# EAGLE library part 691701510008B (library Eagle_WR-TBL Pluggable Connector (rev21a))
WR-TBL Serie 7015B - 5.08 mm Close Vertical PCB Header THR Type KIND PROPERTIES Pitch 5.08 mm MATERIAL PROPERTIES Insulator Material LCP Insulator Flammability Rating UL94 V-0 Contact Material Brass Contact Plating Tin GENERAL INFORMATION Operating Temperature -40 up to +105 °C Compliance RoHS ELECTRICAL PROPERTIES IR cULus 10 A Working Voltage [cULus] 300 V (AC) Withstanding Voltage [cULus] 4000 V (AC) Contact Resistance [cULus] 20 mΩ CERTIFICATION cULus Approval E315414 <https://www.we-online.com/catalog/media/o33333v209%20Family_WR-TBL_66917015100xxB.jpg> Details see: https://www.we-online.com/catalog/en/TBL_5_08_THR_7015B_CLOSE_VERTICAL_PCB_HEADER_6917015100XXB/ Updated by Ella Wu 2019-12-24 2019(C) Wurth Elektronik
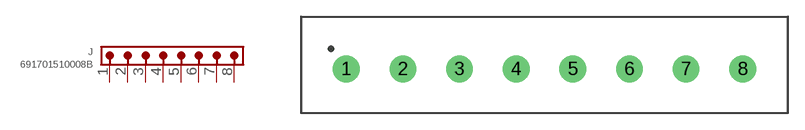
[diagram p240: symbol with the pads of 691701510008B; footprint 691701510008B]

Designator prefix J

## 691701510008B (DATASHEET-URL: https://www.we-online.com/catalog/datasheet/691701510008B.pdf; IR-UL: 10A; MOUNT: THT; PART-NUMBER: 691701510008B; PINS: 8; PITCH: 5.08mm; TYPE: Vertical; VALUE: 691701510008B; WORKING-VOLTAGE-UL: 300V (AC))  [691701510008B]
1  1  pas
2  2  pas
3  3  pas
4  4  pas
5  5  pas
6  6  pas
7  7  pas
8  8  pas

## Footprint 691701510008B (pad centres in mm)
WR-TBL Serie 7015B - 5.08 mm Close Vertical PCB Header THR Type Max Height = 12mm , Pitch 5.08mm , 8pins
drill 1.6: 1 -17.78,0; 2 -12.7,0; 3 -7.62,0; 4 -2.54,0; 5 2.54,0; 6 7.62,0; 7 12.7,0; 8 17.78,0